# EAGLE library part CDCLVC1102 (library SureDSP)
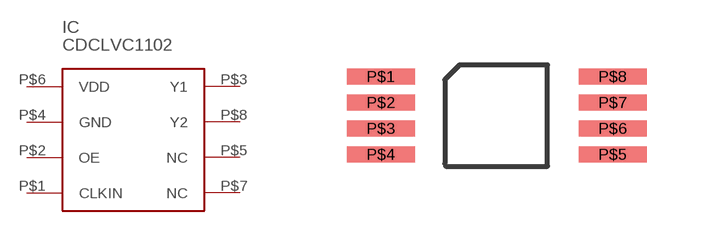
[diagram p4: symbol with the pads of CDCLVC1102; footprint CDCLVC1102]

Designator prefix IC

## CDCLVC1102  [CDCLVC1102]
P$1  CLKIN
P$2  OE
P$3  Y1
P$4  GND
P$5  NC
P$6  VDD
P$7  NC
P$8  Y2

## Footprint CDCLVC1102 (pad centres in mm)
smd 1.7 x 0.4: P$1 -2.9,0.975; P$2 -2.9,0.325; P$3 -2.9,-0.325; P$4 -2.9,-0.975; P$5 2.9,-0.975; P$6 2.9,-0.325; P$7 2.9,0.325; P$8 2.9,0.975